# Altium schematic symbol library ADP7118AUJZ-3.3-R7.SchLib: 1 symbol
Pins are listed as number, name and electrical type; pins without a type are passive.

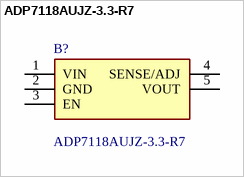
[diagram p0: symbol ADP7118AUJZ-3.3-R7]

## ADP7118AUJZ-3.3-R7
designator B?
20 V, 200 mA, Low Noise, CMOS LDO Linear Regulator; Manufacturer_Name: Analog Devices; Geometry.Height: 1mm; Mouser Part Number: 584-ADP7118AUJZ3.3R7; Mouser Price/Stock: https://www.mouser.co.uk/ProductDetail/Analog-Devices/ADP7118AUJZ-3.3-R7?qs=hpwIUhX6lWxSxNRE9lKdtQ%3D%3D; Manufacturer_Part_Number: ADP7118AUJZ-3.3-R7; Datasheet Link: https://www.analog.com/ADP7118/datasheet
footprint SOT95P280X100-5N
pins: 1 VIN, 2 GND, 3 EN, 4 SENSE/ADJ, 5 VOUT